# EAGLE library part ADS1298 (library ADS129x)
8-Channel, 24-Bit Analog-To-Digital Converter With Integrated ECG Front End. Warning: PAG variant (TQFP package) does not have Respiration Module - pins 27 and 29 must stay unconnected! Drawn 23.07.2011 by Tomasz Boleslaw CEDRO (http://www.tomek.cedro.info).
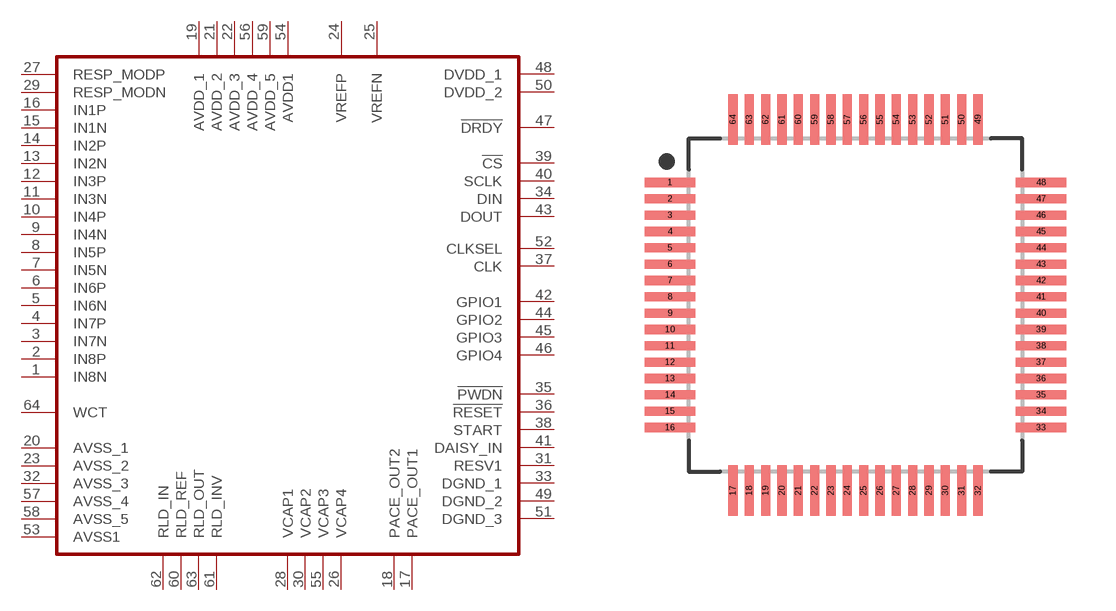
[diagram p1: symbol with the pads of PAG-PQFP64; footprint PAG-PQFP64]

Designator prefix -

## ADS1298*PAG*  [PAG-PQFP64]
1  IN8N  in
2  IN8P  in
3  IN7N  in
4  IN7P  in
5  IN6N  in
6  IN6P  in
7  IN5N  in
8  IN5P  in
9  IN4N  in
10  IN4P  in
11  IN3N  in
12  IN3P  in
13  IN2N  in
14  IN2P  in
15  IN1N  in
16  IN1P  in
17  PACE_OUT1  out
18  PACE_OUT2  out
19  AVDD_1  pwr
20  AVSS_1  pwr
21  AVDD_2  pwr
22  AVDD_3  pwr
23  AVSS_2  pwr
24  VREFP
25  VREFN
26  VCAP4
27  RESP_MODP  out
28  VCAP1
29  RESP_MODN  out
30  VCAP2
31  RESV1  in
32  AVSS_3  pwr
33  DGND_1  pwr
34  DIN  in
35  !PWDN  in
36  !RESET  in
37  CLK  in
38  START  in
39  !CS  in
40  SCLK  in
41  DAISY_IN  in
42  GPIO1
43  DOUT  out
44  GPIO2
45  GPIO3
46  GPIO4
47  !DRDY  out
48  DVDD_1  pwr
49  DGND_2  pwr
50  DVDD_2  pwr
51  DGND_3  pwr
52  CLKSEL  in
53  AVSS1  pwr
54  AVDD1  pwr
55  VCAP3
56  AVDD_4  pwr
57  AVSS_4  pwr
58  AVSS_5  pwr
59  AVDD_5  pwr
60  RLD_REF  in
61  RLD_INV
62  RLD_IN  in
63  RLD_OUT  out
64  WCT  out

## Footprint PAG-PQFP64 (pad centres in mm)
64-QFP, 0.50 mm pitch, 12.00 mm span, 10.00 X 10.00 X 1.05 mm body 64-pin QFP package with 0.50 mm pitch, 12.00 mm lead span1 X 12.00 mm lead span2 with body size 10.00 X 10.00 X 1.05 mm
smd 1.559 x 0.28: 1 -5.678,3.75; 2 -5.678,3.25; 3 -5.678,2.75; 4 -5.678,2.25; 5 -5.678,1.75; 6 -5.678,1.25; 7 -5.678,0.75; 8 -5.678,0.25; 9 -5.678,-0.25; 10 -5.678,-0.75; 11 -5.678,-1.25; 12 -5.678,-1.75; 13 -5.678,-2.25; 14 -5.678,-2.75; 15 -5.678,-3.25; 16 -5.678,-3.75; 33 5.678,-3.75; 34 5.678,-3.25; 35 5.678,-2.75; 36 5.678,-2.25; 37 5.678,-1.75; 38 5.678,-1.25; 39 5.678,-0.75; 40 5.678,-0.25; 41 5.678,0.25; 42 5.678,0.75; 43 5.678,1.25; 44 5.678,1.75; 45 5.678,2.25; 46 5.678,2.75; 47 5.678,3.25; 48 5.678,3.75
smd 0.28 x 1.559: 17 -3.75,-5.678; 18 -3.25,-5.678; 19 -2.75,-5.678; 20 -2.25,-5.678; 21 -1.75,-5.678; 22 -1.25,-5.678; 23 -0.75,-5.678; 24 -0.25,-5.678; 25 0.25,-5.678; 26 0.75,-5.678; 27 1.25,-5.678; 28 1.75,-5.678; 29 2.25,-5.678; 30 2.75,-5.678; 31 3.25,-5.678; 32 3.75,-5.678; 49 3.75,5.678; 50 3.25,5.678; 51 2.75,5.678; 52 2.25,5.678; 53 1.75,5.678; 54 1.25,5.678; 55 0.75,5.678; 56 0.25,5.678; 57 -0.25,5.678; 58 -0.75,5.678; 59 -1.25,5.678; 60 -1.75,5.678; 61 -2.25,5.678; 62 -2.75,5.678; 63 -3.25,5.678; 64 -3.75,5.678